# EAGLE library part 87832-34 (library untitled)
HEADER
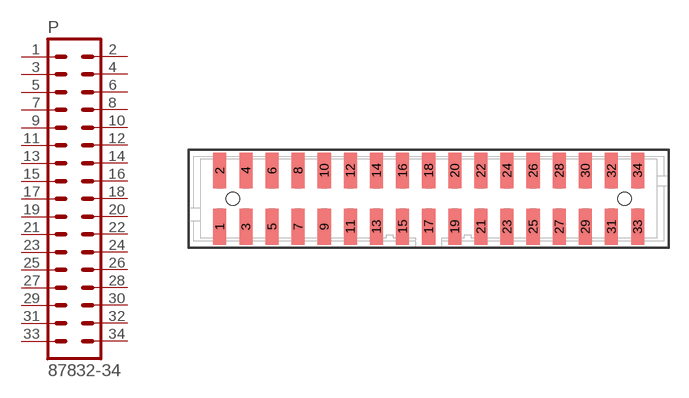
[diagram p105: symbol with the pads of 87832-34; footprint 87832-34]

Designator prefix P

## 87832-34  [87832-34]
1  1  pas
2  2  pas
3  3  pas
4  4  pas
5  5  pas
6  6  pas
7  7  pas
8  8  pas
9  9  pas
10  10  pas
11  11  pas
12  12  pas
13  13  pas
14  14  pas
15  15  pas
16  16  pas
17  17  pas
18  18  pas
19  19  pas
20  20  pas
21  21  pas
22  22  pas
23  23  pas
24  24  pas
25  25  pas
26  26  pas
27  27  pas
28  28  pas
29  29  pas
30  30  pas
31  31  pas
32  32  pas
33  33  pas
34  34  pas

## Footprint 87832-34 (pad centres in mm)
HEADER SMD Dual Row, Shrouded, Vertical
smd 1 x 2.75: 1 -16,-2.15; 2 -16,2.15; 3 -14,-2.15; 4 -14,2.15; 5 -12,-2.15; 6 -12,2.15; 7 -10,-2.15; 8 -10,2.15; 9 -8,-2.15; 10 -8,2.15; 11 -6,-2.15; 12 -6,2.15; 13 -4,-2.15; 14 -4,2.15; 15 -2,-2.15; 16 -2,2.15; 17 0,-2.15; 18 0,2.15; 19 2,-2.15; 20 2,2.15; 21 4,-2.15; 22 4,2.15; 23 6,-2.15; 24 6,2.15; 25 8,-2.15; 26 8,2.15; 27 10,-2.15; 28 10,2.15; 29 12,-2.15; 30 12,2.15; 31 14,-2.15; 32 14,2.15; 33 16,-2.15; 34 16,2.15
hole 1 at -15,0
hole 1 at 15,0